# Altium schematic symbol library Logic_LevelTranslator.SchLib: 34 symbols
Pins are listed as number, name and electrical type; pins without a type are passive.

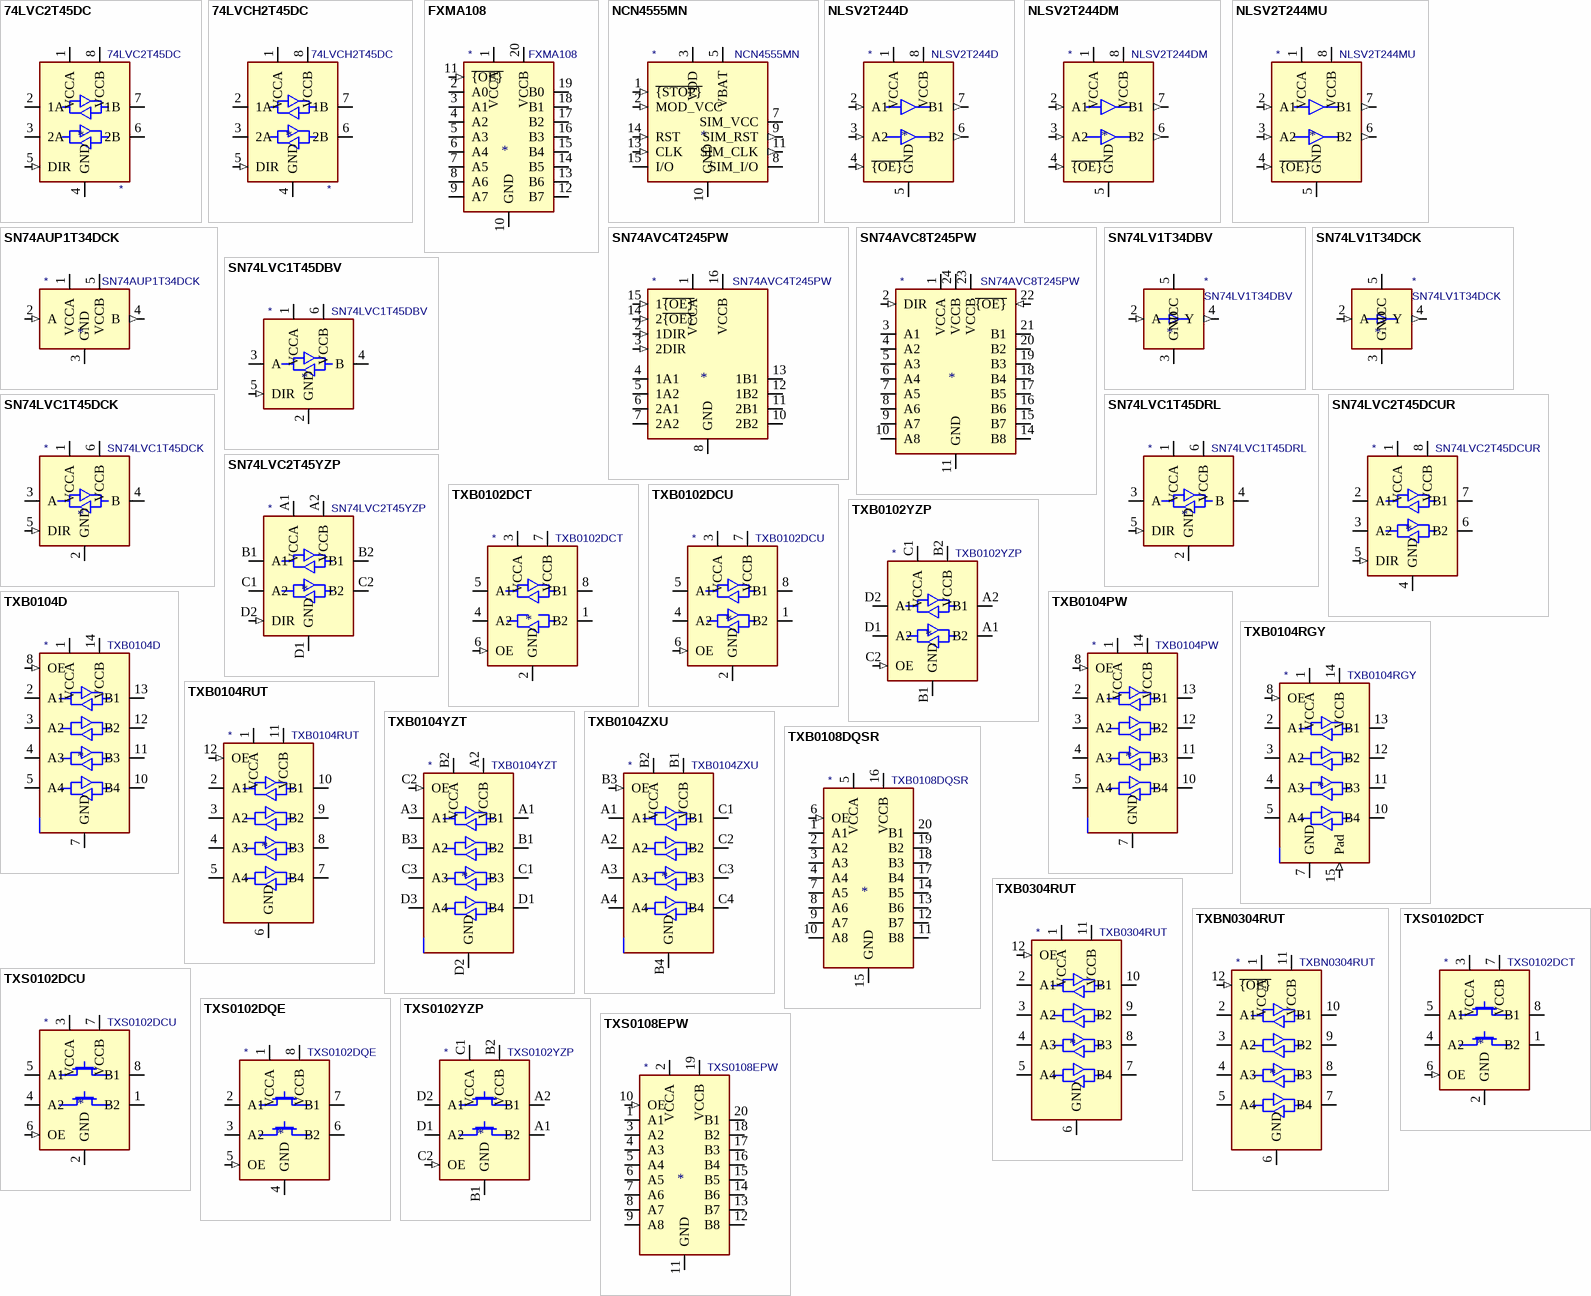
[diagram p0: symbols 74LVC2T45DC to TXS0108EPW]

## 74LVC2T45DC
designator *  value 74LVC2T45DC
ki_keywords: Level-Shifter CMOS-TTL-Translation; ki_description: Dual supply translating transceiver, 3-state, 2-bit, VSSOP-8; ki_fp_filters: VSSOP*2.3x2mm*P0.5mm*; Footprint: Package_SO:VSSOP-8_2.3x2mm_P0.5mm; Supplier: https://assets.nexperia.com/documents/data-sheet/74LVC_LVCH2T45.pdf
footprint VSSOP-8_2.3x2mm_P0.5mm
pins: 1 VCCA (power), 2 1A (io), 3 2A (io), 4 GND (power), 5 DIR (in), 6 2B (io), 7 1B (io), 8 VCCB (power)

## 74LVCH2T45DC
designator *  value 74LVCH2T45DC
ki_keywords: Level-Shifter CMOS-TTL-Translation; ki_description: Dual supply translating transceiver with bus-hold for unused/floating inputs, 3-state, 2-bit, VSSOP-8; ki_fp_filters: VSSOP*2.3x2mm*P0.5mm*; Footprint: Package_SO:VSSOP-8_2.3x2mm_P0.5mm; Supplier: https://assets.nexperia.com/documents/data-sheet/74LVC_LVCH2T45.pdf
footprint VSSOP-8_2.3x2mm_P0.5mm
pins: 1 VCCA (power), 2 1A (io), 3 2A (io), 4 GND (power), 5 DIR (in), 6 2B (io), 7 1B (io), 8 VCCB (power)

## FXMA108
designator *  value FXMA108
ki_keywords: Level shifter translator bidirectional; ki_description: Dual-Supply, 8-Bit Signal Translator with Configurable Voltage Supplies and Signals Levels, 3-State Outputs and Auto Direction Sensing, WQFN-20; ki_fp_filters: WQFN*2.5x4.5mm*P0.5mm*EP1x2.9mm*; Footprint: Package_DFN_QFN:WQFN-20-1EP_2.5x4.5mm_P0.5mm_EP1x2.9mm; Supplier: http://www.onsemi.com/pub/Collateral/FXMA108-D.pdf
footprint WQFN-20-1EP_2.5x4.5mm_P0.5mm_EP1x2.9mm
pins: 1 VCCA (power), 2 A0 (io), 3 A1 (io), 4 A2 (io), 5 A3 (io), 6 A4 (io), 7 A5 (io), 8 A6 (io), 9 A7 (io), 10 GND (power), 11 ~{{OE}} (in), 12 B7 (io), 13 B6 (io), 14 B5 (io), 15 B4 (io), 16 B3 (io), 17 B2 (io), 18 B1 (io), 19 B0 (io), 20 VCCB (power), 21 NC (in) hidden

## NCN4555MN
designator *  value NCN4555MN
ki_keywords: SIM Card Level Shifter; ki_description: SIM Card Power Supply and Level Shifter, QFN-16; ki_fp_filters: QFN*1EP*3x3mm*P0.5mm*; Footprint: Package_DFN_QFN:QFN-16-1EP_3x3mm_P0.5mm_EP1.75x1.75mm; Supplier: https://www.onsemi.com/pub/Collateral/NCN4555-D.PDF
footprint QFN-16-1EP_3x3mm_P0.5mm_EP1.75x1.75mm
pins: 1 ~{{STOP}} (in), 2 MOD_VCC (in), 3 VDD (power), 4 NC (in) hidden, 5 VBAT (power), 6 NC (in) hidden, 7 SIM_VCC (power), 8 SIM_I/O (io), 9 SIM_RST (out), 10 GND (power), 11 SIM_CLK (out), 12 NC (in) hidden, 13 CLK (in), 14 RST (in), 15 I/O (io), 16 NC (in) hidden, 17 GND hidden

## NLSV2T244D
designator *  value NLSV2T244D
ki_keywords: Level-Shifter CMOS-TTL-Translation; ki_description: Dual-Bit Dual-Supply Non-Inverting Level Translator, Output Enable, SOIC-8; ki_fp_filters: SOIC*3.9x4.9mm*P1.27mm*; Footprint: Package_SO:SOIC-8_3.9x4.9mm_P1.27mm; Supplier: http://www.onsemi.com/pub/Collateral/NLSV2T244-D.PDF
footprint SOIC-8_3.9x4.9mm_P1.27mm
pins: 1 VCCA (power), 2 A1 (in), 3 A2 (in), 4 ~{{OE}} (in), 5 GND (power), 6 B2 (out), 7 B1 (out), 8 VCCB (power)

## NLSV2T244DM
designator *  value NLSV2T244DM
ki_keywords: Level-Shifter CMOS-TTL-Translation; ki_description: Dual-Bit Dual-Supply Non-Inverting Level Translator, Output Enable, MSOP-8; ki_fp_filters: MSOP*3x3mm*P0.65mm*; Footprint: Package_SO:MSOP-8_3x3mm_P0.65mm; Supplier: http://www.onsemi.com/pub/Collateral/NLSV2T244-D.PDF
footprint MSOP-8_3x3mm_P0.65mm
pins: 1 VCCA (power), 2 A1 (in), 3 A2 (in), 4 ~{{OE}} (in), 5 GND (power), 6 B2 (out), 7 B1 (out), 8 VCCB (power)

## NLSV2T244MU
designator *  value NLSV2T244MU
ki_keywords: Level-Shifter CMOS-TTL-Translation; ki_description: Dual-Bit Dual-Supply Non-Inverting Level Translator, Output Enable, UDFN-8; ki_fp_filters: OnSemi*UDFN*1.2x1.8mm*P0.4mm*; Footprint: Package_DFN_QFN:OnSemi_UDFN-8_1.2x1.8mm_P0.4mm; Supplier: http://www.onsemi.com/pub/Collateral/NLSV2T244-D.PDF
footprint OnSemi_UDFN-8_1.2x1.8mm_P0.4mm
pins: 1 VCCA (power), 2 A1 (in), 3 A2 (in), 4 ~{{OE}} (in), 5 GND (power), 6 B2 (out), 7 B1 (out), 8 VCCB (power)

## SN74AUP1T34DCK
designator *  value SN74AUP1T34DCK
ki_keywords: Noninverting; ki_description: 1-Bit Unidirectional Voltage-Level Translator, SC-70; ki_fp_filters: SOT*353*; Footprint: Package_TO_SOT_SMD:SOT-353_SC-70-5; Supplier: http://www.ti.com/lit/ds/symlink/sn74aup1t34.pdf
footprint SOT-353_SC-70-5
pins: 1 VCCA (power), 2 A (in), 3 GND (power), 4 B (out), 5 VCCB (power)

## SN74AVC4T245PW
designator *  value SN74AVC4T245PW
ki_keywords: Noninverting Bidirectional; ki_description: 4-Bit Dual-Supply Bus Transceiver With Configurable Voltage Translation and 3-State Outputs, TSSOP-16; ki_fp_filters: TSSOP*4.4x5mm*P0.65mm*; Footprint: Package_SO:TSSOP-16_4.4x5mm_P0.65mm; Supplier: https://www.ti.com/lit/ds/symlink/sn74avc4t245.pdf
footprint TSSOP-16_4.4x5mm_P0.65mm
pins: 1 VCCA (power), 2 1DIR (in), 3 2DIR (in), 4 1A1 (io), 5 1A2 (io), 6 2A1 (io), 7 2A2 (io), 8 GND (power), 9 GND hidden, 10 2B2 (io), 11 2B1 (io), 12 1B2 (io), 13 1B1 (io), 14 2~{{OE}} (in), 15 1~{{OE}} (in), 16 VCCB (power)

## SN74AVC8T245PW
designator *  value SN74AVC8T245PW
ki_keywords: Noninverting Bidirectional; ki_description: 8-Bit Dual-Supply Bus Transceiver With Configurable Voltage Translation and 3-State Outputs, TSSOP-24; ki_fp_filters: TSSOP*4.4x7.8mm*P0.65mm*; Footprint: Package_SO:TSSOP-24_4.4x7.8mm_P0.65mm; Supplier: https://www.ti.com/lit/ds/symlink/sn74avc8t245.pdf
footprint TSSOP-24_4.4x7.8mm_P0.65mm
pins: 1 VCCA (power), 2 DIR (in), 3 A1 (io), 4 A2 (io), 5 A3 (io), 6 A4 (io), 7 A5 (io), 8 A6 (io), 9 A7 (io), 10 A8 (io), 11 GND (power), 12 GND hidden, 13 GND hidden, 14 B8 (io), 15 B7 (io), 16 B6 (io), 17 B5 (io), 18 B4 (io), 19 B3 (io), 20 B2 (io), 21 B1 (io), 22 ~{{OE}} (in), 23 VCCB (power), 24 VCCB (power)

## SN74LV1T34DBV
designator *  value SN74LV1T34DBV
ki_keywords: single buffer level shift; ki_description: Single Power Supply, Single Buffer GATE, CMOS Logic, Level Shifter, SOT-23-5; ki_fp_filters: SOT?23*; Footprint: Package_TO_SOT_SMD:SOT-23-5; Supplier: https://www.ti.com/lit/ds/symlink/sn74lv1t34.pdf
footprint SOT-23-5
pins: 1 NC (in) hidden, 2 A (in), 3 GND (power), 4 Y (out), 5 VCC (power)

## SN74LV1T34DCK
designator *  value SN74LV1T34DCK
ki_keywords: single buffer level shift; ki_description: Single Power Supply, Single Buffer GATE, CMOS Logic, Level Shifter, SOT-353; ki_fp_filters: SOT?353*; Footprint: Package_TO_SOT_SMD:SOT-353_SC-70-5; Supplier: https://www.ti.com/lit/ds/symlink/sn74lv1t34.pdf
footprint SOT-353_SC-70-5
pins: 1 NC (in) hidden, 2 A (in), 3 GND (power), 4 Y (out), 5 VCC (power)

## SN74LVC1T45DBV
designator *  value SN74LVC1T45DBV
ki_keywords: Level-Shifter CMOS-TTL-Translation; ki_description: Single-Bit Dual-Supply Bus Transceiver With Configurable Voltage Translation and 3-State Outputs, SOT-23-6; ki_fp_filters: SOT?23*; Footprint: Package_TO_SOT_SMD:SOT-23-6; Supplier: http://www.ti.com/lit/ds/symlink/sn74lvc1t45.pdf
footprint SOT-23-6
pins: 1 VCCA (power), 2 GND (power), 3 A (io), 4 B (io), 5 DIR (in), 6 VCCB (power)

## SN74LVC1T45DCK
designator *  value SN74LVC1T45DCK
ki_keywords: Level-Shifter CMOS-TTL-Translation; ki_description: Single-Bit Dual-Supply Bus Transceiver With Configurable Voltage Translation and 3-State Outputs, SOT-363; ki_fp_filters: *SC?70*; Footprint: Package_TO_SOT_SMD:SOT-363_SC-70-6; Supplier: http://www.ti.com/lit/ds/symlink/sn74lvc1t45.pdf
footprint SOT-363_SC-70-6
pins: 1 VCCA (power), 2 GND (power), 3 A (io), 4 B (io), 5 DIR (in), 6 VCCB (power)

## SN74LVC1T45DRL
designator *  value SN74LVC1T45DRL
ki_keywords: Level-Shifter CMOS-TTL-Translation; ki_description: Single-Bit Dual-Supply Bus Transceiver With Configurable Voltage Translation and 3-State Outputs, SOT-563; ki_fp_filters: *SOT?563*; Footprint: Package_TO_SOT_SMD:SOT-563; Supplier: http://www.ti.com/lit/ds/symlink/sn74lvc1t45.pdf
footprint SOT-563
pins: 1 VCCA (power), 2 GND (power), 3 A (io), 4 B (io), 5 DIR (in), 6 VCCB (power)

## SN74LVC2T45DCUR
designator *  value SN74LVC2T45DCUR
ki_keywords: Level-Shifter CMOS-TTL-Translation; ki_description: Dual-Bit Dual-Supply Bus Transceiver With Configurable Voltage Translation and 3-State Outputs, VSSOP-8; ki_fp_filters: VSSOP*2.4x2.1mm*P0.5mm*; Footprint: Package_SO:VSSOP-8_2.4x2.1mm_P0.5mm; Supplier: http://www.ti.com/lit/ds/symlink/sn74lvc2t45.pdf
footprint VSSOP-8_2.4x2.1mm_P0.5mm
pins: 1 VCCA (power), 2 A1 (io), 3 A2 (io), 4 GND (power), 5 DIR (in), 6 B2 (io), 7 B1 (io), 8 VCCB (power)

## SN74LVC2T45YZP
designator *  value SN74LVC2T45YZP
ki_keywords: Level-Shifter CMOS-TTL-Translation; ki_description: Dual-Bit Dual-Supply Bus Transceiver With Configurable Voltage Translation and 3-State Outputs, DSBGA-8; ki_fp_filters: Texas*DSBGA*0.9x1.9mm*Layout2x4*P0.5mm*; Footprint: Package_BGA:Texas_DSBGA-8_0.9x1.9mm_Layout2x4_P0.5mm; Supplier: http://www.ti.com/lit/ds/symlink/sn74lvc2t45.pdf
footprint Texas_DSBGA-8_0.9x1.9mm_Layout2x4_P0.5mm
pins: A1 VCCA (power), A2 VCCB (power), B1 A1 (io), B2 B1 (io), C1 A2 (io), C2 B2 (io), D1 GND (power), D2 DIR (in)

## TXB0102DCT
designator *  value TXB0102DCT
ki_keywords: Level-Shifter CMOS-TTL-Translation; ki_description: 2-Bit Bidirectional Voltage-Level Translator in TSSOP Package With Auto Direction Sensing and ±15-kV ESD Protection; ki_fp_filters: TSSOP*P0.65mm*; Footprint: Package_SO:TSSOP-8_3x3mm_P0.65mm; Supplier: http://www.ti.com/lit/ds/symlink/txb0102.pdf
footprint TSSOP-8_3x3mm_P0.65mm
pins: 1 B2 (io), 2 GND (power), 3 VCCA (power), 4 A2 (io), 5 A1 (io), 6 OE (in), 7 VCCB (power), 8 B1 (io)

## TXB0102DCU
designator *  value TXB0102DCU
ki_keywords: Level-Shifter CMOS-TTL-Translation; ki_description: 2-Bit Bidirectional Voltage-Level Translator in VSSOP Package With Auto Direction Sensing and ±15-kV ESD Protection; ki_fp_filters: VSSOP*P0.5mm*; Footprint: Package_SO:VSSOP-8_2.4x2.1mm_P0.5mm; Supplier: http://www.ti.com/lit/ds/symlink/txb0102.pdf
footprint VSSOP-8_2.4x2.1mm_P0.5mm
pins: 1 B2 (io), 2 GND (power), 3 VCCA (power), 4 A2 (io), 5 A1 (io), 6 OE (in), 7 VCCB (power), 8 B1 (io)

## TXB0102YZP
designator *  value TXB0102YZP
ki_keywords: Level-Shifter CMOS-TTL-Translation; ki_description: 2-Bit Bidirectional Voltage-Level Translator in DSBGA Package  With Auto Direction Sensing and ±15-kV ESD Protection; ki_fp_filters: Texas*DSBGA*0.9x1.9mm*Layout2x4*P0.5mm*; Footprint: Package_BGA:Texas_DSBGA-8_0.9x1.9mm_Layout2x4_P0.5mm; Supplier: http://www.ti.com/lit/ds/symlink/txb0102.pdf
footprint Texas_DSBGA-8_0.9x1.9mm_Layout2x4_P0.5mm
pins: A1 B2 (io), A2 B1 (io), B1 GND (power), B2 VCCB (power), C1 VCCA (power), C2 OE (in), D1 A2 (io), D2 A1 (io)

## TXB0104D
designator *  value TXB0104D
ki_keywords: Level-Shifter CMOS-TTL-Translation; ki_description: 4-Bit Bidirectional Voltage-Level Translator, Auto Direction Sensing and ±15-kV ESD Protection, 1.2 - 3.6V APort, 1.65 - 5.5V BPort, SOIC-14; ki_fp_filters: SOIC*14*7mm*P1.27mm*; Footprint: Package_SO:SOIC-14_3.9x8.7mm_P1.27mm; Supplier: http://www.ti.com/lit/ds/symlink/txb0104.pdf
footprint SOIC-14_3.9x8.7mm_P1.27mm
pins: 1 VCCA (power), 2 A1 (io), 3 A2 (io), 4 A3 (io), 5 A4 (io), 6 NC (in) hidden, 7 GND (power), 8 OE (in), 9 NC (in) hidden, 10 B4 (io), 11 B3 (io), 12 B2 (io), 13 B1 (io), 14 VCCB (power)

## TXB0104PW
designator *  value TXB0104PW
ki_keywords: Level-Shifter CMOS-TTL-Translation; ki_description: 4-Bit Bidirectional Voltage-Level Translator, Auto Direction Sensing and ±15-kV ESD Protection, 1.2 - 3.6V APort, 1.65 - 5.5V BPort, TSSOP-14; ki_fp_filters: TSSOP*14*5mm*P0.65mm*; Footprint: Package_SO:TSSOP-14_4.4x5mm_P0.65mm; Supplier: http://www.ti.com/lit/ds/symlink/txb0104.pdf
footprint TSSOP-14_4.4x5mm_P0.65mm
pins: 1 VCCA (power), 2 A1 (io), 3 A2 (io), 4 A3 (io), 5 A4 (io), 6 NC (in) hidden, 7 GND (power), 8 OE (in), 9 NC (in) hidden, 10 B4 (io), 11 B3 (io), 12 B2 (io), 13 B1 (io), 14 VCCB (power)

## TXB0104RGY
designator *  value TXB0104RGY
ki_keywords: Level-Shifter CMOS-TTL-Translation; ki_description: 4-Bit Bidirectional Voltage-Level Translator, Auto Direction Sensing and ±15-kV ESD Protection, 1.2 - 3.6V APort, 1.65 - 5.5V BPort, Texas_PVGFN-14; ki_fp_filters: Texas*S*PVQFN*N14*; Footprint: Package_DFN_QFN:Texas_S-PVQFN-N14; Supplier: http://www.ti.com/lit/ds/symlink/txb0104.pdf
footprint Texas_S-PVQFN-N14
pins: 1 VCCA (power), 2 A1 (io), 3 A2 (io), 4 A3 (io), 5 A4 (io), 6 NC (in) hidden, 7 GND (power), 8 OE (in), 9 NC (in) hidden, 10 B4 (io), 11 B3 (io), 12 B2 (io), 13 B1 (io), 14 VCCB (power), 15 Pad (in)

## TXB0104RUT
designator *  value TXB0104RUT
ki_keywords: Level-Shifter CMOS-TTL-Translation; ki_description: 4-Bit Bidirectional Voltage-Level Translator, Auto Direction Sensing and ±15-kV ESD Protection, 1.2 - 3.6V APort, 1.65 - 5.5V BPort, Texas_PUQFN-12; ki_fp_filters: Texas*R*PUQFN*N12*; Footprint: Package_DFN_QFN:Texas_R_PUQFN-N12; Supplier: http://www.ti.com/lit/ds/symlink/txb0104.pdf
footprint Texas_R_PUQFN-N12
pins: 1 VCCA (power), 2 A1 (hiz), 3 A2 (hiz), 4 A3 (hiz), 5 A4 (hiz), 6 GND (power), 7 B4 (hiz), 8 B3 (hiz), 9 B2 (hiz), 10 B1 (hiz), 11 VCCB (power), 12 OE (in)

## TXB0104YZT
designator *  value TXB0104YZT
ki_keywords: Level-Shifter CMOS-TTL-Translation; ki_description: 4-Bit Bidirectional Voltage-Level Translator, Auto Direction Sensing and ±15-kV ESD Protection, 1.2 - 3.6V APort, 1.65 - 5.5V BPort, DSBGA-12; ki_fp_filters: Texas*DSBGA*1.36x1.86mm*Layout3x4*P0.5mm*; Footprint: Package_BGA:Texas_DSBGA-12_1.36x1.86mm_Layout3x4_P0.5mm; Supplier: http://www.ti.com/lit/ds/symlink/txb0104.pdf
footprint Texas_DSBGA-12_1.36x1.86mm_Layout3x4_P0.5mm
pins: A1 B1 (io), A2 VCCB (power), A3 A1 (io), B1 B2 (io), B2 VCCA (power), B3 A2 (io), C1 B3 (io), C2 OE (in), C3 A3 (io), D1 B4 (io), D2 GND (power), D3 A4 (io)

## TXB0104ZXU
designator *  value TXB0104ZXU
ki_keywords: Level-Shifter CMOS-TTL-Translation; ki_description: 4-Bit Bidirectional Voltage-Level Translator, Auto Direction Sensing and ±15-kV ESD Protection, 1.2 - 3.6V APort, 1.65 - 5.5V BPort, Texas_Junior-12; ki_fp_filters: Texas*Junior*BGA*2.0x2.5mm*Layout4x3*P0.5mm*; Footprint: Package_BGA:Texas_MicroStar_Junior_BGA-12_2.0x2.5mm_Layout4x3_P0.5mm; Supplier: http://www.ti.com/lit/ds/symlink/txb0104.pdf
footprint Texas_MicroStar_Junior_BGA-12_2.0x2.5mm_Layout4x3_P0.5mm
pins: A1 (io), A2 (io), A3 (io), A4 (io), B1 VCCB (power), B2 VCCA (power), B3 OE (in), B4 GND (power), C1 B1 (io), C2 B2 (io), C3 B3 (io), C4 B4 (io)

## TXB0108DQSR
designator *  value TXB0108DQSR
ki_keywords: bidirectional voltage level translator; ki_description: 8-bit bidirectional voltage level translator with auto-direction sensing USON package; ki_fp_filters: USON*2x4mm*P0.4mm*; Footprint: Package_SON:USON-20_2x4mm_P0.4mm; Supplier: http://www.ti.com/lit/ds/symlink/txb0108.pdf
footprint USON-20_2x4mm_P0.4mm
pins: 1 A1 (io), 2 A2 (io), 3 A3 (io), 4 A4 (io), 5 VCCA (power), 6 OE (in), 7 A5 (io), 8 A6 (io), 9 A7 (io), 10 A8 (io), 11 B8 (io), 12 B7 (io), 13 B6 (io), 14 B5 (io), 15 GND (power), 16 VCCB (power), 17 B4 (io), 18 B3 (io), 19 B2 (io), 20 B1 (io)

## TXB0304RUT
designator *  value TXB0304RUT
ki_keywords: Level-Shifter CMOS-TTL-Translation; ki_description: 4-Bit Bidirectional Voltage-Level Translator, Auto Direction Sensing, 0.9 - 3.6V APort, 0.9 - 3.6V BPort, Active High Output Enable, Texas_PUQFN-12; ki_fp_filters: Texas*R*PUQFN*N12*; Footprint: Package_DFN_QFN:Texas_R_PUQFN-N12; Supplier: http://www.ti.com/lit/ds/symlink/txb0304.pdf
footprint Texas_R_PUQFN-N12
pins: 1 VCCA (power), 2 A1 (hiz), 3 A2 (hiz), 4 A3 (hiz), 5 A4 (hiz), 6 GND (power), 7 B4 (hiz), 8 B3 (hiz), 9 B2 (hiz), 10 B1 (hiz), 11 VCCB (power), 12 OE (in)

## TXBN0304RUT
designator *  value TXBN0304RUT
ki_keywords: Level-Shifter CMOS-TTL-Translation; ki_description: 4-Bit Bidirectional Voltage-Level Translator, Auto Direction Sensing, 0.9 - 3.6V APort, 0.9 - 3.6V BPort, Active Low Output Enable, Texas_PUQFN-12; ki_fp_filters: Texas*R*PUQFN*N12*; Footprint: Package_DFN_QFN:Texas_R_PUQFN-N12; Supplier: http://www.ti.com/lit/ds/symlink/txb0304.pdf
footprint Texas_R_PUQFN-N12
pins: 1 VCCA (power), 2 A1 (hiz), 3 A2 (hiz), 4 A3 (hiz), 5 A4 (hiz), 6 GND (power), 7 B4 (hiz), 8 B3 (hiz), 9 B2 (hiz), 10 B1 (hiz), 11 VCCB (power), 12 ~{{OE}} (in)

## TXS0102DCT
designator *  value TXS0102DCT
ki_keywords: Level-Shifter CMOS-TTL-Translation; ki_description: 2-Bit Bidirectional Voltage-Level Shifter for Open-Drain and Push-Pull Application, SSOP-8; ki_fp_filters: SSOP*2.95x2.8mm*P0.65mm*; Footprint: Package_SO:SSOP-8_2.95x2.8mm_P0.65mm; Supplier: http://www.ti.com/lit/gpn/txs0102
footprint SSOP-8_2.95x2.8mm_P0.65mm
pins: 1 B2 (io), 2 GND (power), 3 VCCA (power), 4 A2 (io), 5 A1 (io), 6 OE (in), 7 VCCB (power), 8 B1 (io)

## TXS0102DCU
designator *  value TXS0102DCU
ki_keywords: Level-Shifter CMOS-TTL-Translation; ki_description: 2-Bit Bidirectional Voltage-Level Shifter for Open-Drain and Push-Pull Application, VSSOP-8; ki_fp_filters: VSSOP*2.3x2mm*P0.5mm*; Footprint: Package_SO:VSSOP-8_2.3x2mm_P0.5mm; Supplier: http://www.ti.com/lit/gpn/txs0102
footprint VSSOP-8_2.3x2mm_P0.5mm
pins: 1 B2 (io), 2 GND (power), 3 VCCA (power), 4 A2 (io), 5 A1 (io), 6 OE (in), 7 VCCB (power), 8 B1 (io)

## TXS0102DQE
designator *  value TXS0102DQE
ki_keywords: Level-Shifter CMOS-TTL-Translation; ki_description: 2-Bit Bidirectional Voltage-Level Shifter for Open-Drain and Push-Pull Application, X2SON-8; ki_fp_filters: X2SON*1.4x1mm*P0.35mm*; Footprint: Package_SON:X2SON-8_1.4x1mm_P0.35mm; Supplier: http://www.ti.com/lit/gpn/txs0102
footprint X2SON-8_1.4x1mm_P0.35mm
pins: 1 VCCA (power), 2 A1 (io), 3 A2 (io), 4 GND (power), 5 OE (in), 6 B2 (io), 7 B1 (io), 8 VCCB (power)

## TXS0102YZP
designator *  value TXS0102YZP
ki_keywords: Level-Shifter CMOS-TTL-Translation; ki_description: 2-Bit Bidirectional Voltage-Level Shifter for Open-Drain and Push-Pull Application, DSBGA-8; ki_fp_filters: Texas*DSBGA*0.9x1.9mm*Layout2x4*P0.5mm*; Footprint: Package_BGA:Texas_DSBGA-8_0.9x1.9mm_Layout2x4_P0.5mm; Supplier: http://www.ti.com/lit/gpn/txs0102
footprint Texas_DSBGA-8_0.9x1.9mm_Layout2x4_P0.5mm
pins: A1 B2 (io), A2 B1 (io), B1 GND (power), B2 VCCB (power), C1 VCCA (power), C2 OE (in), D1 A2 (io), D2 A1 (io)

## TXS0108EPW
designator *  value TXS0108EPW
ki_keywords: 8-bit; ki_description: Bidirectional  level-shifting voltage translator, TSSOP-20; ki_fp_filters: *SSOP*4.4x6.5mm*P0.65mm*; Footprint: Package_SO:TSSOP-20_4.4x6.5mm_P0.65mm; Supplier: www.ti.com/lit/ds/symlink/txs0108e.pdf
footprint TSSOP-20_4.4x6.5mm_P0.65mm
pins: 1 A1 (io), 2 VCCA (power), 3 A2 (io), 4 A3 (io), 5 A4 (io), 6 A5 (io), 7 A6 (io), 8 A7 (io), 9 A8 (io), 10 OE (in), 11 GND (power), 12 B8 (io), 13 B7 (io), 14 B6 (io), 15 B5 (io), 16 B4 (io), 17 B3 (io), 18 B2 (io), 19 VCCB (power), 20 B1 (io)